# Altium integrated library Infineon_Power_LED_Driver_IC_and_Lighting_IC.IntLib: 61 symbols (part 3 of 3)
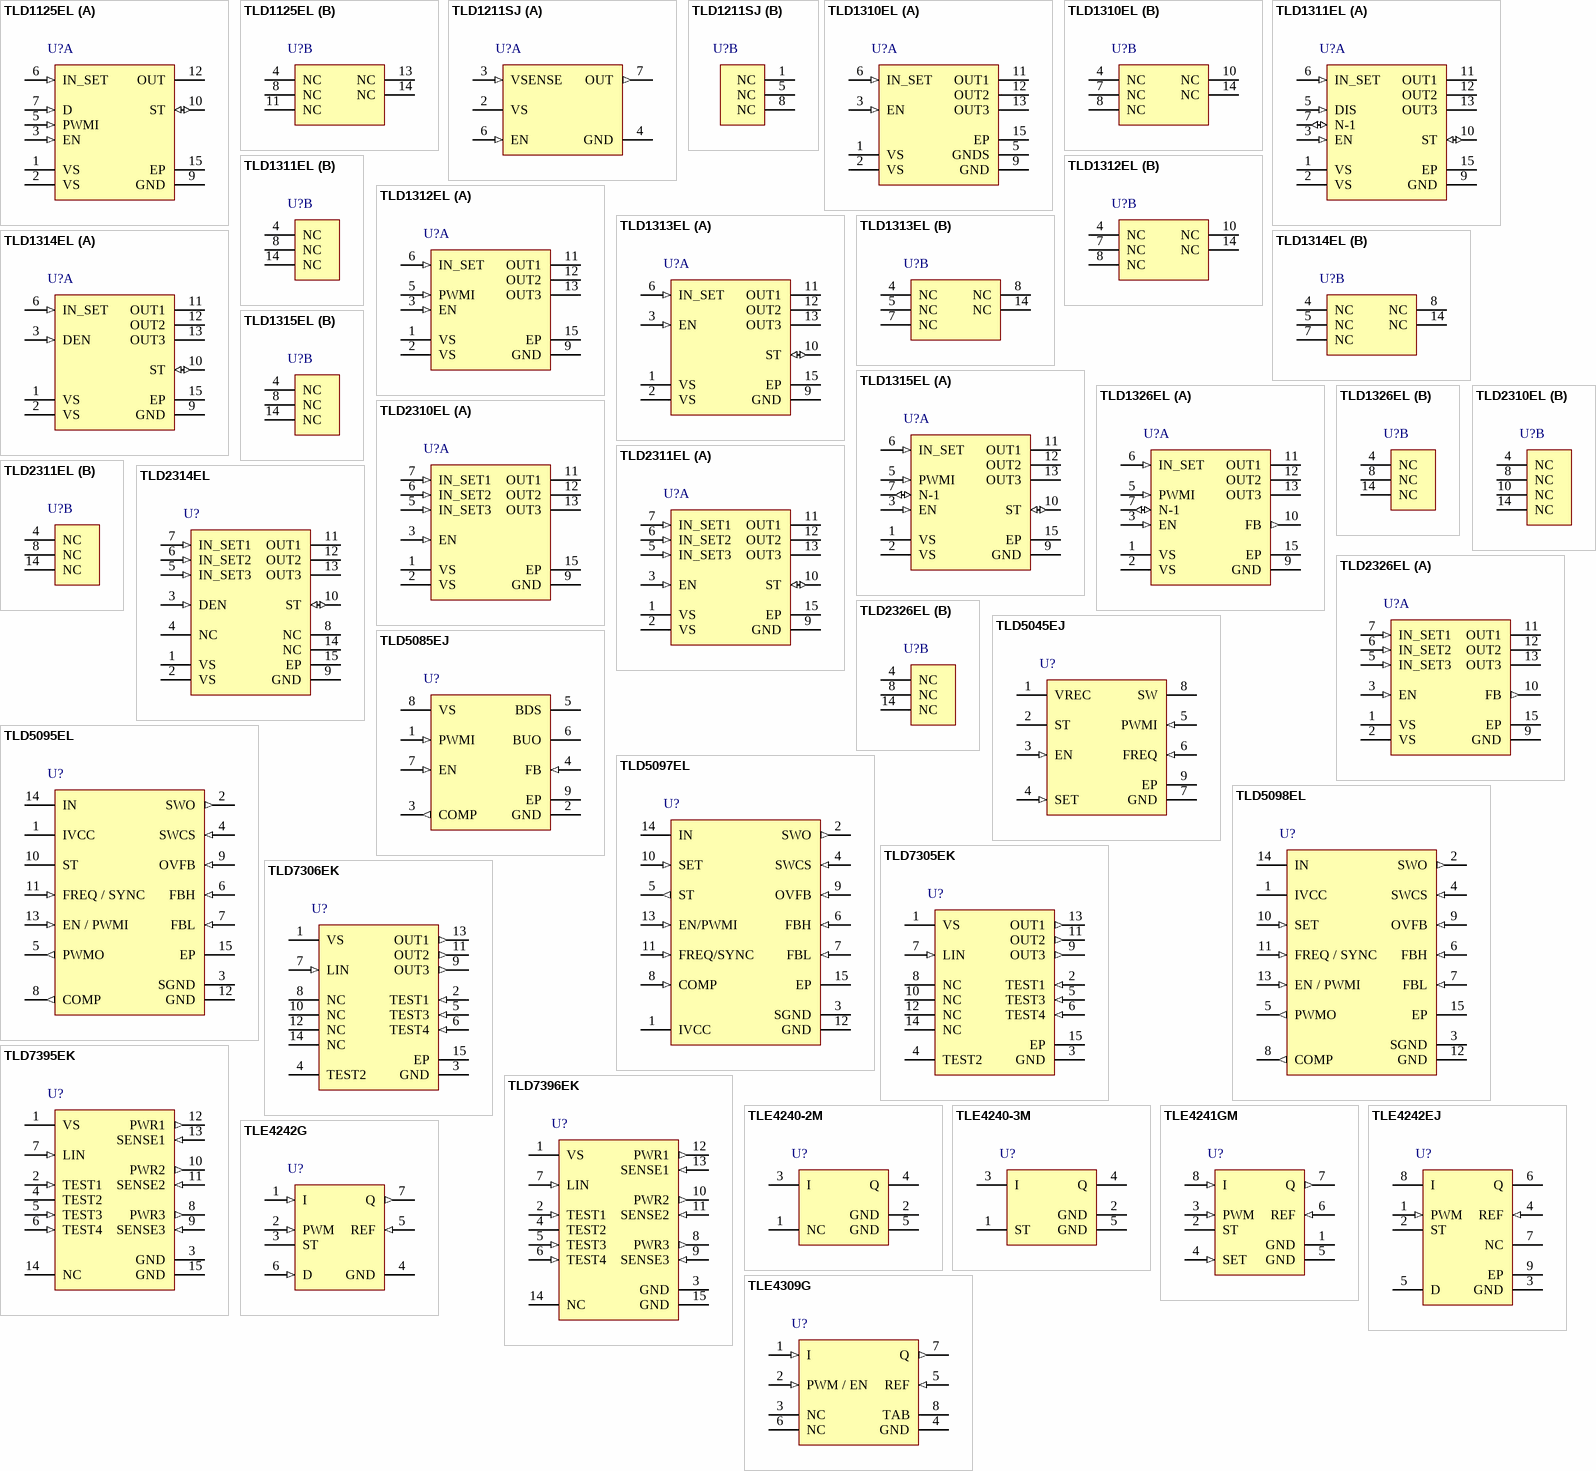
[diagram p3: symbols TLD1125EL to TLE4309G]

## TLD5095EL
designator U?
Multitopology High Power LED DC/DC Controller IC, 4.75 to 45 V, PG-SSOP-14, Reel, Pb-free; Manufacturer: Infineon; PartNumber: TLD5095EL; Green: TRUE; Topology: DC-DC Boost, Buck, Sepic, Buck-Boost, Flyback; VS (max): 45 V; VS (min): 4.75 V; DatasheetVersion: Rev. 1.2; PackageVersion: Oct-08; PackageReference: PG-SSOP-14; PackageDescription: 14-Pin Plastic (Green) Shrink Small Outline Package, 4.9 x 3.9 mm Body, 0.65 mm Pitch; Supplier 1: Mouser; Supplier Part Number 1: 726-TLD5095EL; Supplier 2: Digi-Key; Supplier Part Number 2: TLD5095EL-ND; Halogen-free: TRUE; Packing: Reel; Mounting Technology: Surface Mount; ComponentLink1Description: Manufacturer URL; ComponentLink1URL: http://www.infineon.com/; ComponentLink2Description: Datasheet; ComponentLink2URL: http://www.infineon.com/dgdl/TLD5095-Data-Sheet-12-Infineon.pdf?folderId=db3a3043163797a6011667aa084c0e01&fileId=db3a304325305e6d01256ea6714429b9&location=en.Products.Automotive_ICs.Infineon_Auto_LED_Driver.Power_LED_drivers.DATASHEET.TLD5095-Data-Sheet-12-Infineon.pdf; ComponentLink3Description: Package Specification; ComponentLink3URL: http://www.infineon.com/dgdl/ILD1151-Data-Sheet-11-Infineon.pdf?folderId=db3a30431f848401011fcbf2ab4c04c4&fileId=db3a304330046413013031216f2b20e1&location=en.Products.LED_Drivers___Lighting_ICs.LED_Driver_for_Outdoor_Lighting___Indoor_Lighting.LED_Driver__Product_portfolio_and_Information.DATASHEET.ILD1151-Data-Sheet-11-Infineon.pdf
footprint INF-PG-SSOP-14_N (SOP, 14-Leads, Body 4.9x3.9mm, Pitch 0.65mm, Thermal Pad 3.2x2.75mm, IPC Medium Density)
footprint INF-PG-SSOP-14_L (SOP, 14-Leads, Body 4.9x3.9mm, Pitch 0.65mm, Thermal Pad 3.2x2.85mm, IPC High Density)
footprint INF-PG-SSOP-14_M (SOP, 14-Leads, Body 4.9x3.9mm, Pitch 0.65mm, Thermal Pad 3.2x2.55mm, IPC Low Density)
pins: 1 IVCC (power) "Internal LDO Output; Used for internal biasing and gate drive. Bypass with external capacitor close to the pin. Pin must not be left open.", 2 SWO (out) "Switch Output; Connect to gate of external switching MOSFET", 3 SGND (power) "Current Sense Ground; Ground return for current sense switch", 4 SWCS (in) "Current Sense Input; Detects the peak current through switch", 5 PWMO (out) "PWM Dimming Output; Connect to gate of external MOSFET", 6 FBH (in) "Voltage Feedback Positive; Non inverting Input (+)", 7 FBL (in) "Voltage Feedback Negative; Inverting Input (-)", 8 COMP (out) "Compensation Input; Connect R and C network to pin for stability", 9 OVFB (in) "Output Overvoltage Protection Feedback; Connect to resistive voltage divider to set overvoltage threshold.", 10 ST (oc) "Status Output; Open drain diagnostic output to indicate fault condition. Connect pull up resistor to pin.", 11 FREQ / SYNC (in) "Frequency Select or Synchronization Input; Connect external resistor to GND to set frequency. Or apply external clock signal for synchronization within frequency capture range.", 12 GND (power) "Ground; Connect to system ground.", 13 EN / PWMI (in) "Enable or PWM Input; Apply logic HIGH signal to enable device or PWM signal for dimming LED.", 14 IN (power) "Supply Input; Supply for internal biasing.", 15 EP (power) "Exposed Pad; Connect to external heatspreading GND Cu area (e.g. inner GND layer of multilayer PCB with thermal vias)."

## TLD5097EL
designator U?
Multitopology High Power LED DC/DC IC, 4.5 to 45 V, -40 to 150 degC, PG-SSOP-14, Reel, Green; Manufacturer: Infineon; PartNumber: TLD5097EL; fSW (max): 500 kHz; fSW (min): 100 kHz; Green: TRUE; Topology: DC-DC Boost, Buck, Sepic, Buck-Boost, Flyback; VS (max): 45 V; VS (min): 4.5 V; DatasheetVersion: Rev. 1.0; PackageVersion: Oct-08; PackageReference: PG-SSOP-14; PackageDescription: 14-Pin Plastic (Green) Shrink Small Outline Package, 4.9 x 3.9 mm Body, 0.65 mm Pitch; Halogen-free: TRUE; Inhibit: TRUE; Open Load Detection: TRUE; Packing: Reel; PWM: TRUE; Short Circuit Protection: TRUE; Mounting Technology: Surface Mount; ComponentLink1Description: Manufacturer URL; ComponentLink1URL: http://www.infineon.com/; ComponentLink2Description: Datasheet; ComponentLink2URL: http://www.infineon.com/dgdl/TLD5097EL-Data-Sheet-10-Infineon.pdf?folderId=db3a304412b407950112b408e8c90004&fileId=db3a3043442f820901443eb1f6925bc8&ack=t; ComponentLink3Description: Package Specification; ComponentLink3URL: http://www.infineon.com/dgdl/PG-SSOP-14-1%2C-2%2C-3%2C-5-Package_Overview.pdf?folderId=db3a304327b897500127f79f69566553&fileId=db3a3043422231a901422ce38a900db8
footprint INF-PG-SSOP-14_N (SOP, 14-Leads, Body 4.9x3.9mm, Pitch 0.65mm, Thermal Pad 3.2x2.75mm, IPC Medium Density)
footprint INF-PG-SSOP-14_L (SOP, 14-Leads, Body 4.9x3.9mm, Pitch 0.65mm, Thermal Pad 3.2x2.85mm, IPC High Density)
footprint INF-PG-SSOP-14_M (SOP, 14-Leads, Body 4.9x3.9mm, Pitch 0.65mm, Thermal Pad 3.2x2.55mm, IPC Low Density)
pins: 1 IVCC (power) "Internal LDO Output;Used for internal biasing and gate drive. Bypass with external capacitor close to the pin. Pin must not be left open.", 2 SWO (out) "Switch Output;Connect to gate of external switching MOSFET", 3 SGND (power) "Current Sense Ground;Ground return for current sense switch", 4 SWCS (in) "Current Sense Input;Detects the peak current through switch", 5 ST (out) "Status Output;to indicate fault conditions", 6 FBH (in) "Voltage Feedback Positive;Non inverting Input (+)", 7 FBL (in) "Voltage Feedback Negative;Inverting Input (-)", 8 COMP (in) "Compensation Input;Connect R and C network to pin for stability", 9 OVFB (in) "Output Overvoltage Protection Feedback;Connect to resistive voltage divider to set overvoltage threshold.", 10 SET (in) "Analog Dimming Input;Load current adjustment Pin. Pin must not be left open. If analog dimming feature is not used connect to IVCC pin.", 11 FREQ/SYNC (in), 12 GND (power) "Ground;Connect to system ground.", 13 EN/PWMI (in), 14 IN (power) "Supply Input;Supply for internal biasing.", 15 EP (power) "Exposed Pad;Connect to external heatspreading GND Cu area (e.g. inner GND layer of multilayer PCB with thermal vias)."

## TLD5098EL
designator U?
Multitopology High Power LED DC/DC IC, 4.5 to 45 V, PG-SSOP-14, Reel, Pb-free; Manufacturer: Infineon; PartNumber: TLD5098EL; Green: TRUE; Topology: DC-DC Boost, Buck, Sepic, Buck-Boost, Flyback; VS (max): 45 V; VS (min): 4.5 V; DatasheetVersion: Rev. 1.1; PackageVersion: Oct-08; PackageReference: PG-SSOP-14; PackageDescription: 14-Pin Plastic (Green) Shrink Small Outline Package, 4.9 x 3.9 mm Body, 0.65 mm Pitch; Supplier 1: Mouser; Supplier Part Number 1: 726-TLD5098EL; Halogen-free: TRUE; Packing: Reel; Mounting Technology: Surface Mount; ComponentLink1Description: Manufacturer URL; ComponentLink1URL: http://www.infineon.com/; ComponentLink2Description: Datasheet; ComponentLink2URL: http://www.infineon.com/dgdl/TLD5098EL-Data-Sheet-11-Infineon.pdf?folderId=db3a3043163797a6011667aa084c0e01&fileId=db3a30432c59a87e012c5e98d2853514&location=en.Products.Automotive_ICs.Infineon_Auto_LED_Driver.Power_LED_drivers.DATASHEET.TLD5098EL-Data-Sheet-11-Infineon.pdf; ComponentLink3Description: Package Specification; ComponentLink3URL: http://www.infineon.com/dgdl/ILD1151-Data-Sheet-11-Infineon.pdf?folderId=db3a30431f848401011fcbf2ab4c04c4&fileId=db3a304330046413013031216f2b20e1&location=en.Products.LED_Drivers___Lighting_ICs.LED_Driver_for_Outdoor_Lighting___Indoor_Lighting.LED_Driver__Product_portfolio_and_Information.DATASHEET.ILD1151-Data-Sheet-11-Infineon.pdf
footprint INF-PG-SSOP-14_N (SOP, 14-Leads, Body 4.9x3.9mm, Pitch 0.65mm, Thermal Pad 3.2x2.75mm, IPC Medium Density)
footprint INF-PG-SSOP-14_L (SOP, 14-Leads, Body 4.9x3.9mm, Pitch 0.65mm, Thermal Pad 3.2x2.85mm, IPC High Density)
footprint INF-PG-SSOP-14_M (SOP, 14-Leads, Body 4.9x3.9mm, Pitch 0.65mm, Thermal Pad 3.2x2.55mm, IPC Low Density)
pins: 1 IVCC (power) "Internal LDO Output; Used for internal biasing and gate drive. Bypass with external capacitor close to the pin. Pin must not be left open.", 2 SWO (out) "Switch Output; Connect to gate of external switching MOSFET", 3 SGND (power) "Current Sense Ground; Ground return for current sense switch", 4 SWCS (in) "Current Sense Input; Detects the peak current through switch", 5 PWMO (out) "PWM Dimming Output; Connect to gate of external MOSFET", 6 FBH (in) "Voltage Feedback Positive; Non inverting Input (+)", 7 FBL (in) "Voltage Feedback Negative; Inverting Input (-)", 8 COMP (out) "Compensation Input; Connect R and C network to pin for stability", 9 OVFB (in) "Output Overvoltage Protection Feedback; Connect to resistive voltage divider to set overvoltage threshold.", 10 SET (in) "Analog Dimming Input; Load current adjustment Pin. Pin must not be left open. If analog dimming feature is not used connect to IVCC pin.", 11 FREQ / SYNC (in) "Frequency Select or Synchronization Input; Connect external resistor to GND to set frequency. Or apply external clock signal for synchronization within frequency capture range.", 12 GND (power) "Ground; Connect to system ground.", 13 EN / PWMI (in) "Enable or PWM Input; Apply logic HIGH signal to enable device or PWM signal for dimming LED.", 14 IN (power) "Supply Input; Supply for internal biasing.", 15 EP (power) "Exposed Pad; Connect to external heatspreading GND Cu area (e.g. inner GND layer of multilayer PCB with thermal vias)."

## TLD7305EK
designator U?
Low Side Current Source 3 channels, typical 48 mA load current, 6 V to 34 V, PG-DSO-14-43, Reel, Pb-free; Manufacturer: Infineon; PartNumber: TLD7305EK; Green: TRUE; VS (max): 34 V; VS (min): 6 V; DatasheetVersion: Rev. 1.0; PackageVersion: V02; PackageReference: PG-DSO-14-43; PackageDescription: 14-Pin Plastic (Green) Dual Small Outline Package, 8.65 x 3.9 mm Body, 1.27 mm Pitch; Halogen-free: TRUE; Packing: Reel; Mounting Technology: Surface Mount; ComponentLink1Description: Manufacturer URL; ComponentLink1URL: http://www.infineon.com/; ComponentLink2Description: Datasheet; ComponentLink2URL: http://www.infineon.com/dgdl/TLD7305EK-Data-Sheet-10-Infineon.pdf?folderId=db3a304412b407950112b408e8c90004&fileId=db3a304335c2937a0135e2bde1844425&location=en.Products.Automotive_ICs.Infineon_Auto_LED_Driver.Infineon__LINLED_Driver.DATASHEET.TLD7305EK-Data-Sheet-10-Infineon.pdf; ComponentLink3Description: Package Specification; ComponentLink3URL: http://www.infineon.com/cms/packages/SMD_-_Surface_Mounted_Devices/P-PG-DSO/P-PG-DSO-14-33x_-40x_-43.html?__locale=en
footprint INF-PG-DSO-14-43_N (SOP, 14-Leads, Body 8.65x3.9mm, Pitch 1.27mm, Thermal Pad 6.65x2.9mm, IPC Medium Density)
footprint INF-PG-DSO-14-43_L (SOP, 14-Leads, Body 8.65x3.9mm, Pitch 1.27mm, Thermal Pad 6.65x2.9mm, IPC High Density)
footprint INF-PG-DSO-14-43_M (SOP, 14-Leads, Body 8.65x3.9mm, Pitch 1.27mm, Thermal Pad 6.65x2.9mm, IPC Low Density)
pins: 1 VS (power) "Supply Voltage; battery supply, connect an Reverse polarity protection and a decoupling capacitor (100nF - 1µF), see also Figure 14 and Figure 15", 2 TEST1 (in) "Test Pin; used for Infineon end of line test, connect to GND in application", 3 GND (power) "Ground", 4 TEST2 "Test Pin; used for Infineon end of line test, connect to GND in application", 5 TEST3 (in) "Test Pin; used for Infineon end of line test, connect to GND in application", 6 TEST4 (in) "Test Pin; used for Infineon end of line test, connect to GND in application", 7 LIN (in) "LIN Input; Connected to LIN-master with a filter capacitor (e.g. 220pF) and an external over voltage protection (e.g. MMBZ27VALT1)", 8 NC "Not Connected", 9 OUT3 (out) "Output 3", 10 NC "Not Connected", 11 OUT2 (out) "Output 2", 12 NC "Not Connected", 13 OUT1 (out) "Output 1", 14 NC "Not Connected", 15 EP (power) "Exposed Pad; connect to GND in application"

## TLD7306EK
designator U?
Low Side Current Source 3 channels, typical 48 mA load current, 6 V to 34 V, PG-DSO-14-43, Reel, Pb-free; Manufacturer: Infineon; PartNumber: TLD7306EK; Green: TRUE; VS (max): 34 V; VS (min): 6 V; DatasheetVersion: Rev. 1.0; PackageVersion: V02; PackageReference: PG-DSO-14-43; PackageDescription: 14-Pin Plastic (Green) Dual Small Outline Package, 8.65 x 3.9 mm Body, 1.27 mm Pitch; Halogen-free: TRUE; Packing: Reel; Mounting Technology: Surface Mount; ComponentLink1Description: Manufacturer URL; ComponentLink1URL: http://www.infineon.com/; ComponentLink2Description: Datasheet; ComponentLink2URL: http://www.infineon.com/dgdl/TLD7306EK-Data-Sheet-10-Infineon.pdf?folderId=db3a304412b407950112b408e8c90004&fileId=db3a304335c2937a0135e2c1fbfc4431&location=en.Products.Automotive_ICs.Infineon_Auto_LED_Driver.Infineon__LINLED_Driver.DATASHEET.TLD7306EK-Data-Sheet-10-Infineon.pdf; ComponentLink3Description: Package Specification; ComponentLink3URL: http://www.infineon.com/cms/packages/SMD_-_Surface_Mounted_Devices/P-PG-DSO/P-PG-DSO-14-33x_-40x_-43.html?__locale=en
footprint INF-PG-DSO-14-43_N (SOP, 14-Leads, Body 8.65x3.9mm, Pitch 1.27mm, Thermal Pad 6.65x2.9mm, IPC Medium Density)
footprint INF-PG-DSO-14-43_L (SOP, 14-Leads, Body 8.65x3.9mm, Pitch 1.27mm, Thermal Pad 6.65x2.9mm, IPC High Density)
footprint INF-PG-DSO-14-43_M (SOP, 14-Leads, Body 8.65x3.9mm, Pitch 1.27mm, Thermal Pad 6.65x2.9mm, IPC Low Density)
pins: 1 VS (power) "Supply Voltage; battery supply, connect an Reverse polarity protection and a decoupling capacitor (100nF - 1µF), see also Figure 14 and Figure 15", 2 TEST1 (in) "Test Pin; used for Infineon end of line test, connect to GND in application", 3 GND (power) "Ground", 4 TEST2 "Test Pin; used for Infineon end of line test, connect to GND in application", 5 TEST3 (in) "Test Pin; used for Infineon end of line test, connect to GND in application", 6 TEST4 (in) "Test Pin; used for Infineon end of line test, connect to GND in application", 7 LIN (in) "LIN Input; Connected to LIN-master with a filter capacitor (e.g. 220pF) and an external over voltage protection (e.g. MMBZ27VALT1)", 8 NC "Not Connected", 9 OUT3 (out) "Output 3", 10 NC "Not Connected", 11 OUT2 (out) "Output 2", 12 NC "Not Connected", 13 OUT1 (out) "Output 1", 14 NC "Not Connected", 15 EP (power) "Exposed Pad; connect to GND in application"

## TLD7395EK
designator U?
High Side Driver IC 3 channels, 6 V to 34 V, PG-DSO-14-43, Reel, Pb-free; Manufacturer: Infineon; PartNumber: TLD7395EK; Green: TRUE; VS (max): 34 V; VS (min): 6 V; DatasheetVersion: Rev. 1.0; PackageVersion: V02; PackageReference: PG-DSO-14-43; PackageDescription: 14-Pin Plastic (Green) Dual Small Outline Package, 8.65 x 3.9 mm Body, 1.27 mm Pitch; Halogen-free: TRUE; Packing: Reel; Mounting Technology: Surface Mount; ComponentLink1Description: Manufacturer URL; ComponentLink1URL: http://www.infineon.com/; ComponentLink2Description: Datasheet; ComponentLink2URL: http://www.infineon.com/dgdl/TLD7395EK-Data-Sheet-10-Infineon.pdf?folderId=db3a304412b407950112b408e8c90004&fileId=db3a304335c2937a0135e2c6333b4438&location=en.Products.Automotive_ICs.Infineon_Auto_LED_Driver.Infineon__LINLED_Driver.DATASHEET.TLD7395EK-Data-Sheet-10-Infineon.pdf; ComponentLink3Description: Package Specification; ComponentLink3URL: http://www.infineon.com/cms/packages/SMD_-_Surface_Mounted_Devices/P-PG-DSO/P-PG-DSO-14-33x_-40x_-43.html?__locale=en
footprint INF-PG-DSO-14-43_N (SOP, 14-Leads, Body 8.65x3.9mm, Pitch 1.27mm, Thermal Pad 6.65x2.9mm, IPC Medium Density)
footprint INF-PG-DSO-14-43_L (SOP, 14-Leads, Body 8.65x3.9mm, Pitch 1.27mm, Thermal Pad 6.65x2.9mm, IPC High Density)
footprint INF-PG-DSO-14-43_M (SOP, 14-Leads, Body 8.65x3.9mm, Pitch 1.27mm, Thermal Pad 6.65x2.9mm, IPC Low Density)
pins: 1 VS (power) "Supply Voltage; battery supply, connect an Reverse polarity protection and a decoupling capacitor (100nF - 1μF), see also Figure 14", 2 TEST1 (in) "Test Pin; used for Infineon end of line test, connect to GND in application", 3 GND (power) "Ground", 4 TEST2 "Test Pin; used for Infineon end of line test, leave unconnected in application", 5 TEST3 (in) "Test Pin; used for Infineon end of line test, connect to GND in application", 6 TEST4 (in) "Test Pin; used for Infineon end of line test, connect to GND in application", 7 LIN (in) "LIN Input; Connected to LIN-master with a filter capacitor (e.g. 220pF) and an external over voltage protection (e.g. MMBZ27VALT1)", 8 PWR3 (out) "Base Driver Output 3", 9 SENSE3 (in) "Sense Input 3", 10 PWR2 (out) "Base Driver Output 2", 11 SENSE2 (in) "Sense Input 2", 12 PWR1 (out) "Base Driver Output 2", 13 SENSE1 (in) "Sense Input 1", 14 NC "Not Connected", 15 GND (power) "Exposed Pad; connect to GND in application"

## TLD7396EK
designator U?
High Side Driver IC 3 channels, 6 V to 34 V, PG-DSO-14-43, Reel, Pb-free; Manufacturer: Infineon; PartNumber: TLD7396EK; Green: TRUE; VS (max): 34 V; VS (min): 6 V; DatasheetVersion: Rev. 1.0; PackageVersion: V02; PackageReference: PG-DSO-14-43; PackageDescription: 14-Pin Plastic (Green) Dual Small Outline Package, 8.65 x 3.9 mm Body, 1.27 mm Pitch; Halogen-free: TRUE; Packing: Reel; Mounting Technology: Surface Mount; ComponentLink1Description: Manufacturer URL; ComponentLink1URL: http://www.infineon.com/; ComponentLink2Description: Datasheet; ComponentLink2URL: http://www.infineon.com/dgdl/TLD7396EK-Data-Sheet-10-Infineon.pdf?folderId=db3a304412b407950112b408e8c90004&fileId=db3a304335c2937a0135e2cc84c0443f&location=en.Products.Automotive_ICs.Infineon_Auto_LED_Driver.Infineon__LINLED_Driver.DATASHEET.TLD7396EK-Data-Sheet-10-Infineon.pdf; ComponentLink3Description: Package Specification; ComponentLink3URL: http://www.infineon.com/cms/packages/SMD_-_Surface_Mounted_Devices/P-PG-DSO/P-PG-DSO-14-33x_-40x_-43.html?__locale=en
footprint INF-PG-DSO-14-43_N (SOP, 14-Leads, Body 8.65x3.9mm, Pitch 1.27mm, Thermal Pad 6.65x2.9mm, IPC Medium Density)
footprint INF-PG-DSO-14-43_L (SOP, 14-Leads, Body 8.65x3.9mm, Pitch 1.27mm, Thermal Pad 6.65x2.9mm, IPC High Density)
footprint INF-PG-DSO-14-43_M (SOP, 14-Leads, Body 8.65x3.9mm, Pitch 1.27mm, Thermal Pad 6.65x2.9mm, IPC Low Density)
pins: 1 VS (power) "Supply Voltage; battery supply, connect an Reverse polarity protection and a decoupling capacitor (100nF - 1µF), see also Figure 14", 2 TEST1 (in) "Test Pin; used for Infineon end of line test, connect to GND in application", 3 GND (power) "Ground", 4 TEST2 "Test Pin; used for Infineon end of line test, leave unconnected in application", 5 TEST3 (in) "Test Pin; used for Infineon end of line test, connect to GND in application", 6 TEST4 (in) "Test Pin; used for Infineon end of line test, connect to GND in application", 7 LIN (in) "LIN Input; Connected to LIN-master with a filter capacitor (e.g. 220pF) and an external over voltage protection (e.g. MMBZ27VALT1)", 8 PWR3 (out) "Base Driver Output 3", 9 SENSE3 (in) "Sense Input 3", 10 PWR2 (out) "Base Driver Output 2", 11 SENSE2 (in) "Sense Input 2", 12 PWR1 (out) "Base Driver Output 2", 13 SENSE1 (in) "Sense Input 1", 14 NC "Not Connected", 15 GND (power) "Exposed Pad; connect to GND in application"

## TLE4240-2M
designator U?
Low Dropout Linear LED Driver, -40 to 150 degC, SCT595, Reel, Green; Manufacturer: Infineon; PartNumber: TLE4240-2M; Green: TRUE; DatasheetVersion: Rev. 1.1; PackageVersion: Apr-08; PackageReference: SCT595; PackageDescription: 5-Pin Semiconductor Transistor Package, 2.9 x 1.6 mm Body, 0.95 mm Pitch; Supplier 1: Mouser; Supplier Part Number 1: 726-TLE42402M; Supplier 2: Digi-Key; Supplier Part Number 2: TLE4240-2MTR-ND; Supplier 3: Digi-Key; Supplier Part Number 3: TLE4240-2MCT-ND; Supplier 4: Digi-Key; Supplier Part Number 4: TLE4240-2MDKR-ND; Halogen-free: FALSE; Packing: Reel; Mounting Technology: Surface Mount; ComponentLink1Description: Manufacturer URL; ComponentLink1URL: http://www.infineon.com/; ComponentLink2Description: Datasheet; ComponentLink2URL: http://www.infineon.com/dgdl/TLE4240-2-3_DS_rev1.1.pdf?folderId=db3a304412b407950112b408e8c90004&fileId=db3a304412b407950112b435449862a7&location=en.Products.Automotive_ICs.Infineon_Auto_LED_Driver.Basic_LED-Driver.DATASHEET.TLE4240-2-3_DS_rev1.1.pdf; ComponentLink3Description: Package Specification; ComponentLink3URL: http://www.infineon.com/dgdl/SCT595-Package_Overview.pdf?folderId=db3a30431936bc4b01195289a4e23b8a&fileId=db3a30431936bc4b0119529a880d3bb2
footprint INF-SCT595_V (SCT595, 5-Leads, Body 2.9x1.6mm)
pins: 1 NC "Internally not connected.", 2 GND (power) "Ground; connect to heatsink area. Interconnect with pin 5.", 3 I (power) "Input; IC supply", 4 Q (power) "Output;", 5 GND (power) "Ground; connect to heatsink area. Interconnect with pin 2."

## TLE4240-3M
designator U?
Low Dropout Linear LED Driver, -40 to 150 degC, SCT595, Reel, Green; Manufacturer: Infineon; PartNumber: TLE4240-3M; Green: TRUE; DatasheetVersion: Rev. 1.1; PackageVersion: Apr-08; PackageReference: SCT595; PackageDescription: 5-Pin Semiconductor Transistor Package, 2.9 x 1.6 mm Body, 0.95 mm Pitch; Supplier 1: Mouser; Supplier Part Number 1: 726-TLE42403M; Supplier 2: Digi-Key; Supplier Part Number 2: TLE4240-3MTR-ND; Supplier 3: Digi-Key; Supplier Part Number 3: TLE4240-3MCT-ND; Supplier 4: Digi-Key; Supplier Part Number 4: TLE4240-3MDKR-ND; Halogen-free: FALSE; Packing: Reel; Mounting Technology: Surface Mount; ComponentLink1Description: Manufacturer URL; ComponentLink1URL: http://www.infineon.com/; ComponentLink2Description: Datasheet; ComponentLink2URL: http://www.infineon.com/dgdl/TLE4240-2-3_DS_rev1.1.pdf?folderId=db3a304412b407950112b408e8c90004&fileId=db3a304412b407950112b435449862a7&location=en.Products.Automotive_ICs.Infineon_Auto_LED_Driver.Basic_LED-Driver.DATASHEET.TLE4240-2-3_DS_rev1.1.pdf; ComponentLink3Description: Package Specification; ComponentLink3URL: http://www.infineon.com/dgdl/SCT595-Package_Overview.pdf?folderId=db3a30431936bc4b01195289a4e23b8a&fileId=db3a30431936bc4b0119529a880d3bb2
footprint INF-SCT595_V (SCT595, 5-Leads, Body 2.9x1.6mm)
pins: 1 ST (oc) "Status output; open collector output. Low level indicates open load. Connect to a positive voltage rail with an external pull-up resistor. Leave open, if not needed.", 2 GND (power) "Ground; connect to heatsink area. Interconnect with pin 5.", 3 I (power) "Input; IC supply", 4 Q (power) "Output;", 5 GND (power) "Ground; connect to heatsink area. Interconnect with pin 2."

## TLE4241GM
designator U?
LED Driver with Adjustable Current, 4 V to 45 V, PG-DSO-8-16, Reel, Pb-free; Manufacturer: Infineon; PartNumber: TLE4241GM; Green: TRUE; Topology: Linear; VS (max): 45 V; VS (min): 4 V; DatasheetVersion: Rev. 1.3; PackageVersion: Mar-07; PackageReference: PG-DSO-8-16; PackageDescription: 8-Pin Plastic (Green) Dual Small Outline Package, 4.9 x 3.9 mm Body, 1.27 mm Pitch; Supplier 1: Mouser; Supplier Part Number 1: 726-TLE4241GM; Supplier 2: Newark; Supplier Part Number 2: 05M1400; Supplier 3: Farnell; Supplier Part Number 3: 1226618RL; Supplier 4: Farnell; Supplier Part Number 4: 1226618; Supplier 5: Digi-Key; Supplier Part Number 5: TLE4241GMTR-ND; Supplier 6: Digi-Key; Supplier Part Number 6: TLE4241GMCT-ND; Supplier 7: Digi-Key; Supplier Part Number 7: TLE4241GMDKR-ND; Packing: Reel; Mounting Technology: Surface Mount; ComponentLink1Description: Manufacturer URL; ComponentLink1URL: http://www.infineon.com/; ComponentLink2Description: Datasheet; ComponentLink2URL: http://www.infineon.com/dgdl/TLE4241_DS_13%5B1%5D.pdf?folderId=db3a30431400ef68011421b54e2e0564&fileId=db3a30431ddc9372011ebaad49bf7f26&location=en.Products.Automotive_ICs.Infineon_Auto_LED_Driver.Basic_LED-Driver.DATASHEET.TLE4241_DS_13[1].pdf; ComponentLink3Description: Package Specification; ComponentLink3URL: http://www.infineon.com/dgdl/TLE7259-2GE_DS_rev12.pdf?folderId=db3a3043163797a6011666d32a0c0de1&fileId=db3a3043163797a6011666d4dbb80de2&location=en.Products.Automotive_ICs.Automotive_Transceivers.LIN_Transceivers.DATASHEET.TLE7259-2GE_DS_rev12.pdf
footprint INF-PG-DSO-8-16_N (SOP, 8-Leads, Body 4.9x3.9mm, Pitch 1.27mm, IPC Medium Density)
footprint INF-PG-DSO-8-16_L (SOP, 8-Leads, Body 4.9x3.9mm, Pitch 1.27mm, IPC High Density)
footprint INF-PG-DSO-8-16_M (SOP, 8-Leads, Body 4.9x3.9mm, Pitch 1.27mm, IPC Low Density)
pins: 1 GND (power) "Ground; internally connected to pin 5", 2 ST (oc) "Status Output; open collector output, connect to external  pull-up resistor (10 k ohm or higher)", 3 PWM (in) "Pulse Width Modulation Input; if not needed connect to VI", 4 SET (in) "High/Low Current Input; choice of current level", 5 GND (power) "Ground; internally connected to pin 1", 6 REF (in) "Reference Input; connect to GND via an external resistor to  adjust the output current", 7 Q (out) "Output", 8 I (in) "Input; block to GND directly at the IC with a 100 nF ceramic  capacitor"

## TLE4242EJ
designator U?
1 Channel High Side Current Source up to 500 mA, Basic LED Driver, 4.5 V to 42 V, -40 to 150 degC, PG-DSO-8, Reel, Green; Manufacturer: Infineon; PartNumber: TLE4242EJ; Green: TRUE; IQ (max): 500 mA; Iq (typ): 0.1 uA; Topology: Linear; VQ (max): 40 V; VS (max): 42 V; VS (min): 4.5 V; DatasheetVersion: Rev. 1.0; PackageVersion: V01, 06/2012; PackageReference: PG-DSO-8-27; PackageDescription: 8-Pin Plastic (Green) Dual Small Outline Package, 4.9 x 3.9 mm Body, 1.27 mm Pitch; Supplier 1: Mouser; Supplier Part Number 1: N/A; Halogen-free: TRUE; Inhibit: TRUE; Open Load Detection: TRUE; Packing: Reel; PWM: TRUE; Short Circuit Protection: TRUE; Mounting Technology: Surface Mount; Code_JEDEC: MS-012; ComponentLink1Description: Manufacturer URL; ComponentLink1URL: http://www.infineon.com/; ComponentLink2Description: Datasheet; ComponentLink2URL: http://www.infineon.com/dgdl/TLE4242EJ-Data-Sheet-10-Infineon.pdf?folderId=db3a304412b407950112b408e8c90004&fileId=db3a30434486a89301448c99ea9978e4; ComponentLink3Description: Package Specification; ComponentLink3URL: http://www.infineon.com/cms/packages/SMD_-_Surface_Mounted_Devices/P-PG-DSO/P-PG-DSO-08-27.html?__locale=en
footprint INF-PG-DSO-8-27_N (SOP, 8-Leads, Body 4.9x3.9mm, Pitch 1.27mm, Thermal Pad 3.2x2.85mm, IPC Medium Density)
footprint INF-PG-DSO-8-27_L (SOP, 8-Leads, Body 4.9x3.9mm, Pitch 1.27mm, Thermal Pad 3.2x2.85mm, IPC High Density)
footprint INF-PG-DSO-8-27_M (SOP, 8-Leads, Body 4.9x3.9mm, Pitch 1.27mm, Thermal Pad 3.2x2.85mm, IPC Low Density)
pins: 1 PWM (in) "Pulse Width Modulation Input; if not required, connect to I-pin1)", 2 ST (oc) "Status Output; open collector output, connect to external pull-up resistor", 3 GND (power) "Ground", 4 REF (in) "Reference Input; connect to shunt resistor", 5 D "Status Delay; optional, connect to GND via an optional capacitor to extend the status reaction time. Leave open, if no delay is required.", 6 Q (power) "Output", 7 NC, 8 I (power) "Input; battery supply, connect a decoupling ceramic capacitor of at least 100 nF directly at the IC to ground", 9 EP (power) "Exposed Pad; connect to GND in application"

## TLE4242G
designator U?
Adjustable LED Driver, 4.5 to 42 V, PG-TO263-7-1, Reel, Pb-free; Manufacturer: Infineon; PartNumber: TLE4242G; Green: TRUE; Topology: Linear; VS (max): 42 V; VS (min): 4.5 V; DatasheetVersion: Rev. 1.1; PackageVersion: May-07; PackageReference: PG-TO263-7-1; PackageDescription: 7-Pin Plastic (Green) Transistor Single Outline Package, 9.25 x 10 mm Body, 1.27 mm Pitch; Supplier 1: Mouser; Supplier Part Number 1: 726-TLE4242G; Supplier 2: Newark; Supplier Part Number 2: 05M1401; Supplier 3: Farnell; Supplier Part Number 3: 1226619; Supplier 4: Farnell; Supplier Part Number 4: 1226619RL; Supplier 5: Digi-Key; Supplier Part Number 5: TLE4242GINTR-ND; Supplier 6: Digi-Key; Supplier Part Number 6: TLE4242GINCT-ND; Supplier 7: Digi-Key; Supplier Part Number 7: TLE4242GINDKR-ND; Halogen-free: TRUE; Packing: Reel; Mounting Technology: Surface Mount; ComponentLink1Description: Manufacturer URL; ComponentLink1URL: http://www.infineon.com/; ComponentLink2Description: Datasheet; ComponentLink2URL: http://www.infineon.com/dgdl/TLE4242_DS_11.pdf?folderId=db3a304314dca389011561889ef01fe7&fileId=db3a30431be39b97011c238ca4657836&location=en.Products.Automotive_ICs.Infineon_Auto_LED_Driver.Basic_LED-Driver.DATASHEET.TLE4242_DS_11.pdf; ComponentLink3Description: Package Specification; ComponentLink3URL: http://www.infineon.com/dgdl/TLE5205-2_DS_11%5B1%5D.pdf?folderId=db3a30431b3e89eb011bb632994f065b&fileId=db3a30431f848401011fc747c7a0797f&sId=db3a30433d68e984013d7d43135b5b6a
footprint INF-PG-TO263-7-1_N (DPAK, 8-Leads, Body 10x9.25mm, Pitch 1.27mm, IPC Medium Density)
footprint INF-PG-TO263-7-1_L (DPAK, 8-Leads, Body 10x9.25mm, Pitch 1.27mm, IPC High Density)
footprint INF-PG-TO263-7-1_M (DPAK, 8-Leads, Body 10x9.25mm, Pitch 1.27mm, IPC Low Density)
pins: 1 I (in) "Input; block to GND directly at the IC with a 100 nF ceramic capacitor.", 2 PWM (in) "Pulse Width Modulation Input; if not needed connect to I", 3 ST (oc) "Status Output; open collector output, connect to external  pull-up resistor (Rpull-up >= 4.7 k ohm).", 4 GND (power) "Ground", 5 REF (in) "Reference Input; connect to shunt resistor.", 6 D (in) "Status Delay; connect to GND via an optional capacitor to  set status reaction delay. Leave open if no ST delay is  needed.", 7 Q (out) "Output"

## TLE4309G
designator U?
Adjustable Linear Low Dropout LED Driver, 4.5 to 24 V, PG-TO263-7-1, Reel, Pb-free; Manufacturer: Infineon; PartNumber: TLE4309G; Green: TRUE; VS (max): 24 V; VS (min): 4.5 V; DatasheetVersion: Rev. 1.0; PackageVersion: May-07; PackageReference: PG-TO263-7-1; PackageDescription: 7-Pin Plastic (Green) Transistor Single Outline Package, 9.25 x 10 mm Body, 1.27 mm Pitch; Supplier 1: Mouser; Supplier Part Number 1: 726-TLE4309G; Supplier 2: Digi-Key; Supplier Part Number 2: TLE4309GTR-ND; Supplier 3: Digi-Key; Supplier Part Number 3: TLE4309GCT-ND; Supplier 4: Digi-Key; Supplier Part Number 4: TLE4309GDKR-ND; Halogen-free: TRUE; Packing: Reel; Type: Linear; Mounting Technology: Surface Mount; ComponentLink1Description: Manufacturer URL; ComponentLink1URL: http://www.infineon.com/; ComponentLink2Description: Datasheet; ComponentLink2URL: http://www.infineon.com/dgdl/TLE4309_DS_10.pdf?folderId=db3a304314dca389011561889ef01fe7&fileId=db3a3043156fd5730115dbcc2dde15cf&location=en.Products.LED_Drivers___Lighting_ICs.LED_Driver_for_Outdoor_Lighting___Indoor_Lighting.LED_Driver__Product_portfolio_and_Information.DATASHEET.TLE4309_DS_10.pdf; ComponentLink3Description: Package Specification; ComponentLink3URL: http://www.infineon.com/dgdl/TLE5205-2_DS_11%5B1%5D.pdf?folderId=db3a30431b3e89eb011bb632994f065b&fileId=db3a30431f848401011fc747c7a0797f&sId=db3a30433d68e984013d7d43135b5b6a
footprint INF-PG-TO263-7-1_N (DPAK, 8-Leads, Body 10x9.25mm, Pitch 1.27mm, IPC Medium Density)
footprint INF-PG-TO263-7-1_L (DPAK, 8-Leads, Body 10x9.25mm, Pitch 1.27mm, IPC High Density)
footprint INF-PG-TO263-7-1_M (DPAK, 8-Leads, Body 10x9.25mm, Pitch 1.27mm, IPC Low Density)
pins: 1 I (in) "Input.", 2 PWM / EN (in) "Pulse Width Modulation Input / ENABLE input. If not needed connect to I (pin 1).", 3 NC "Internally not connected. Leave open.", 4 GND (power) "Ground reference; connect to heatsink area and to TAB.", 5 REF (in) "Reference Input; connect to shunt resistor.", 6 NC "Internally not connected. Leave open.", 7 Q (out) "Output.", 8 TAB (power) "Connect to heatsink area and to GND pin."